# Altium schematic symbol library DS90LV019.SchLib: 1 symbol
Pins are listed as number, name and electrical type; pins without a type are passive.

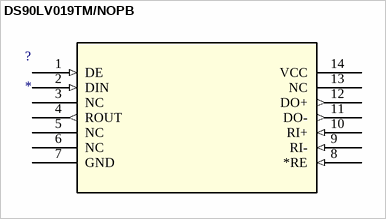
[diagram p0: symbol DS90LV019TM/NOPB]

## DS90LV019TM/NOPB
designator ?
Imported; Manufacturer_Part_Number: ds90lv019tmnopb; Vendor: National Semiconductor; C: Copyright (C) 2015 Accelerated Designs. All rights reserved; Copyright: Copyright (C) 2015 Accelerated Designs. All rights reserved; RefDes: RefDes; Type: DEV; Value: Value
footprint M14A
pins: 1 DE (in), 2 DIN (in), 3 NC, 4 ROUT (out), 5 NC, 6 NC, 7 GND (power), 8 *RE (in), 9 RI- (in), 10 RI+ (in), 11 DO- (out), 12 DO+ (out), 13 NC, 14 VCC (power)